# EAGLE library part OMRON (library Relais Omron - 1 x Wechsler )
Name des Bauteiles: Omron 1 x Wechsler Daten: 24V Spulensp. 400V/16A/250VAC Artikelnummer: #030055 Datenblatt:
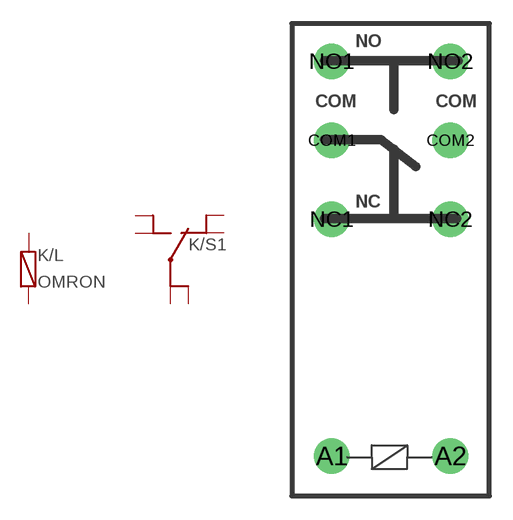
[diagram p0: symbol with the pads of G2R-1-E-24DC; footprint G2R-1-E-24DC]

Designator prefix K; gates /S1=KONTAKTE /L=SPULE

## OMRONG2R-1-E-24DC  [G2R-1-E-24DC]
A1  /L:A1
A2  /L:A2
COM1  /S1:COM1  pas
COM2  /S1:COM2  pas
NC1  /S1:NC1  pas
NC2  /S1:NC2  pas
NO1  /S1:NO1  pas
NO2  /S1:NO2  pas

## Footprint G2R-1-E-24DC (pad centres in mm)
COM ist miteinander Verbunden...
drill 1.5: A1 0,0; A2 7.5,0; COM1 0,20; COM2 7.5,20; NC1 0,15; NC2 7.5,15; NO1 0,25; NO2 7.5,25